# Altium footprint library PIC18F252ISP.PcbLib: 1 footprints
Each footprint in its own frame and in the unit in brackets; x right, y up, seen from the top. Pads: shape width x height; smd on the part's side, far side on the other; paste and mask are expansions set on the pad; w line width, h text height; cw(c..) or ccw(c..) is an arc to the next point about the centre after c.
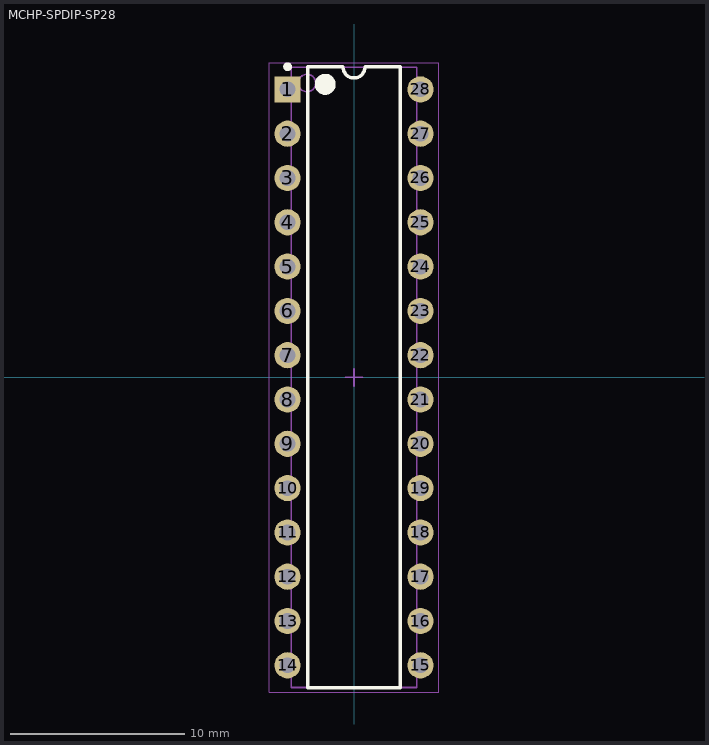
[diagram p0: the footprint, top view; thin cyan lines are the x and y axes]

## MCHP-SPDIP-SP28 [mm] "DIP, 28-Leads, Body 34.86x6.79mm, Pitch 2.54mm"
height 5.08
pads (28):
  rect 1.5x1.5 hole 0.9: 1(-3.81,16.51)
  round 1.5 hole 0.9: 2(-3.81,13.97) 3(-3.81,11.43) 4(-3.81,8.89) 5(-3.81,6.35) 6(-3.81,3.81) 7(-3.81,1.27) 8(-3.81,-1.27) 9(-3.81,-3.81) 10(-3.81,-6.35) 11(-3.81,-8.89) 12(-3.81,-11.43) 13(-3.81,-13.97) 14(-3.81,-16.51) 15(3.81,-16.51) 16(3.81,-13.97) 17(3.81,-11.43) 18(3.81,-8.89) 19(3.81,-6.35) 20(3.81,-3.81) 21(3.81,-1.27) 22(3.81,1.27) 23(3.81,3.81) 24(3.81,6.35) 25(3.81,8.89) 26(3.81,11.43) 27(3.81,13.97) 28(3.81,16.51)
Top Overlay:
  circle w0.25: c-3.81,17.81 r0.125
  circle w0.6: c-1.65,16.8 r0.3
  lines w0.2: -2.65,-17.8 -2.65,17.8 -0.635,17.8 ccw(c0,17.8) 0.635,17.8 2.65,17.8 2.65,-17.8 -2.65,-17.8
Mechanical 13:
  circle w0.1: c-2.7,16.875 r0.5
  lines w0.1: -3.6,-17.775 -3.6,17.775 3.6,17.775 3.6,-17.775 -3.6,-17.775
Mechanical 15:
  lines w0.05: -4.85,-18.05 -4.85,18.05 4.85,18.05 4.85,-18.05 -4.85,-18.05
  lines w0.1: -0.5,0 0.5,0 ; 0,-0.5 0,0.5
3D body: height 2.6, standoff 0, extent -3.945,16.01 -3.675,17.01
3D body: height 2.87, standoff 2.6, extent -3.945,16.01 -3.6,17.01
3D body: height 0, standoff -1.6, extent -3.945,16.15 -3.675,16.87
3D body: height 2.6, standoff 0, extent -3.945,13.47 -3.675,14.47
3D body: height 2.87, standoff 2.6, extent -3.945,13.47 -3.6,14.47
3D body: height 0, standoff -1.6, extent -3.945,13.61 -3.675,14.33
3D body: height 2.6, standoff 0, extent -3.945,10.93 -3.675,11.93
3D body: height 2.87, standoff 2.6, extent -3.945,10.93 -3.6,11.93
3D body: height 0, standoff -1.6, extent -3.945,11.07 -3.675,11.79
3D body: height 2.6, standoff 0, extent -3.945,8.39 -3.675,9.39
3D body: height 2.87, standoff 2.6, extent -3.945,8.39 -3.6,9.39
3D body: height 0, standoff -1.6, extent -3.945,8.53 -3.675,9.25
3D body: height 2.6, standoff 0, extent -3.945,5.85 -3.675,6.85
3D body: height 2.87, standoff 2.6, extent -3.945,5.85 -3.6,6.85
3D body: height 0, standoff -1.6, extent -3.945,5.99 -3.675,6.71
3D body: height 2.6, standoff 0, extent -3.945,3.31 -3.675,4.31
3D body: height 2.87, standoff 2.6, extent -3.945,3.31 -3.6,4.31
3D body: height 0, standoff -1.6, extent -3.945,3.45 -3.675,4.17
3D body: height 2.6, standoff 0, extent -3.945,0.77 -3.675,1.77
3D body: height 2.87, standoff 2.6, extent -3.945,0.77 -3.6,1.77
3D body: height 0, standoff -1.6, extent -3.945,0.91 -3.675,1.63
3D body: height 2.6, standoff 0, extent -3.945,-1.77 -3.675,-0.77
3D body: height 2.87, standoff 2.6, extent -3.945,-1.77 -3.6,-0.77
3D body: height 0, standoff -1.6, extent -3.945,-1.63 -3.675,-0.91
3D body: height 2.6, standoff 0, extent -3.945,-4.31 -3.675,-3.31
3D body: height 2.87, standoff 2.6, extent -3.945,-4.31 -3.6,-3.31
3D body: height 0, standoff -1.6, extent -3.945,-4.17 -3.675,-3.45
3D body: height 2.6, standoff 0, extent -3.945,-6.85 -3.675,-5.85
3D body: height 2.87, standoff 2.6, extent -3.945,-6.85 -3.6,-5.85
3D body: height 0, standoff -1.6, extent -3.945,-6.71 -3.675,-5.99
3D body: height 2.6, standoff 0, extent -3.945,-9.39 -3.675,-8.39
3D body: height 2.87, standoff 2.6, extent -3.945,-9.39 -3.6,-8.39
3D body: height 0, standoff -1.6, extent -3.945,-9.25 -3.675,-8.53
3D body: height 2.6, standoff 0, extent -3.945,-11.93 -3.675,-10.93
3D body: height 2.87, standoff 2.6, extent -3.945,-11.93 -3.6,-10.93
3D body: height 0, standoff -1.6, extent -3.945,-11.79 -3.675,-11.07
3D body: height 2.6, standoff 0, extent -3.945,-14.47 -3.675,-13.47
3D body: height 2.87, standoff 2.6, extent -3.945,-14.47 -3.6,-13.47
3D body: height 0, standoff -1.6, extent -3.945,-14.33 -3.675,-13.61
3D body: height 2.6, standoff 0, extent -3.945,-17.01 -3.675,-16.01
3D body: height 2.87, standoff 2.6, extent -3.945,-17.01 -3.6,-16.01
3D body: height 0, standoff -1.6, extent -3.945,-16.87 -3.675,-16.15
3D body: height 2.6, standoff 0, extent 3.675,-17.01 3.945,-16.01
3D body: height 2.87, standoff 2.6, extent 3.6,-17.01 3.945,-16.01
3D body: height 0, standoff -1.6, extent 3.675,-16.87 3.945,-16.15
3D body: height 2.6, standoff 0, extent 3.675,-14.47 3.945,-13.47
3D body: height 2.87, standoff 2.6, extent 3.6,-14.47 3.945,-13.47
3D body: height 0, standoff -1.6, extent 3.675,-14.33 3.945,-13.61
3D body: height 2.6, standoff 0, extent 3.675,-11.93 3.945,-10.93
3D body: height 2.87, standoff 2.6, extent 3.6,-11.93 3.945,-10.93
3D body: height 0, standoff -1.6, extent 3.675,-11.79 3.945,-11.07
3D body: height 2.6, standoff 0, extent 3.675,-9.39 3.945,-8.39
3D body: height 2.87, standoff 2.6, extent 3.6,-9.39 3.945,-8.39
3D body: height 0, standoff -1.6, extent 3.675,-9.25 3.945,-8.53
3D body: height 2.6, standoff 0, extent 3.675,-6.85 3.945,-5.85
3D body: height 2.87, standoff 2.6, extent 3.6,-6.85 3.945,-5.85
3D body: height 0, standoff -1.6, extent 3.675,-6.71 3.945,-5.99
3D body: height 2.6, standoff 0, extent 3.675,-4.31 3.945,-3.31
3D body: height 2.87, standoff 2.6, extent 3.6,-4.31 3.945,-3.31
3D body: height 0, standoff -1.6, extent 3.675,-4.17 3.945,-3.45
3D body: height 2.6, standoff 0, extent 3.675,-1.77 3.945,-0.77
3D body: height 2.87, standoff 2.6, extent 3.6,-1.77 3.945,-0.77
3D body: height 0, standoff -1.6, extent 3.675,-1.63 3.945,-0.91
3D body: height 2.6, standoff 0, extent 3.675,0.77 3.945,1.77
3D body: height 2.87, standoff 2.6, extent 3.6,0.77 3.945,1.77
3D body: height 0, standoff -1.6, extent 3.675,0.91 3.945,1.63
3D body: height 2.6, standoff 0, extent 3.675,3.31 3.945,4.31
3D body: height 2.87, standoff 2.6, extent 3.6,3.31 3.945,4.31
3D body: height 0, standoff -1.6, extent 3.675,3.45 3.945,4.17
3D body: height 2.6, standoff 0, extent 3.675,5.85 3.945,6.85
3D body: height 2.87, standoff 2.6, extent 3.6,5.85 3.945,6.85
3D body: height 0, standoff -1.6, extent 3.675,5.99 3.945,6.71
3D body: height 2.6, standoff 0, extent 3.675,8.39 3.945,9.39
3D body: height 2.87, standoff 2.6, extent 3.6,8.39 3.945,9.39
3D body: height 0, standoff -1.6, extent 3.675,8.53 3.945,9.25
3D body: height 2.6, standoff 0, extent 3.675,10.93 3.945,11.93
3D body: height 2.87, standoff 2.6, extent 3.6,10.93 3.945,11.93
3D body: height 0, standoff -1.6, extent 3.675,11.07 3.945,11.79
3D body: height 2.6, standoff 0, extent 3.675,13.47 3.945,14.47
3D body: height 2.87, standoff 2.6, extent 3.6,13.47 3.945,14.47
3D body: height 0, standoff -1.6, extent 3.675,13.61 3.945,14.33
3D body: height 2.6, standoff 0, extent 3.675,16.01 3.945,17.01
3D body: height 2.87, standoff 2.6, extent 3.6,16.01 3.945,17.01
3D body: height 0, standoff -1.6, extent 3.675,16.15 3.945,16.87
3D body: height 5.08, standoff 0.38, extent -3.6,-17.775 3.6,17.775